# Altium integrated library FPGA Generic.IntLib: 1651 symbols (part 7 of 20)
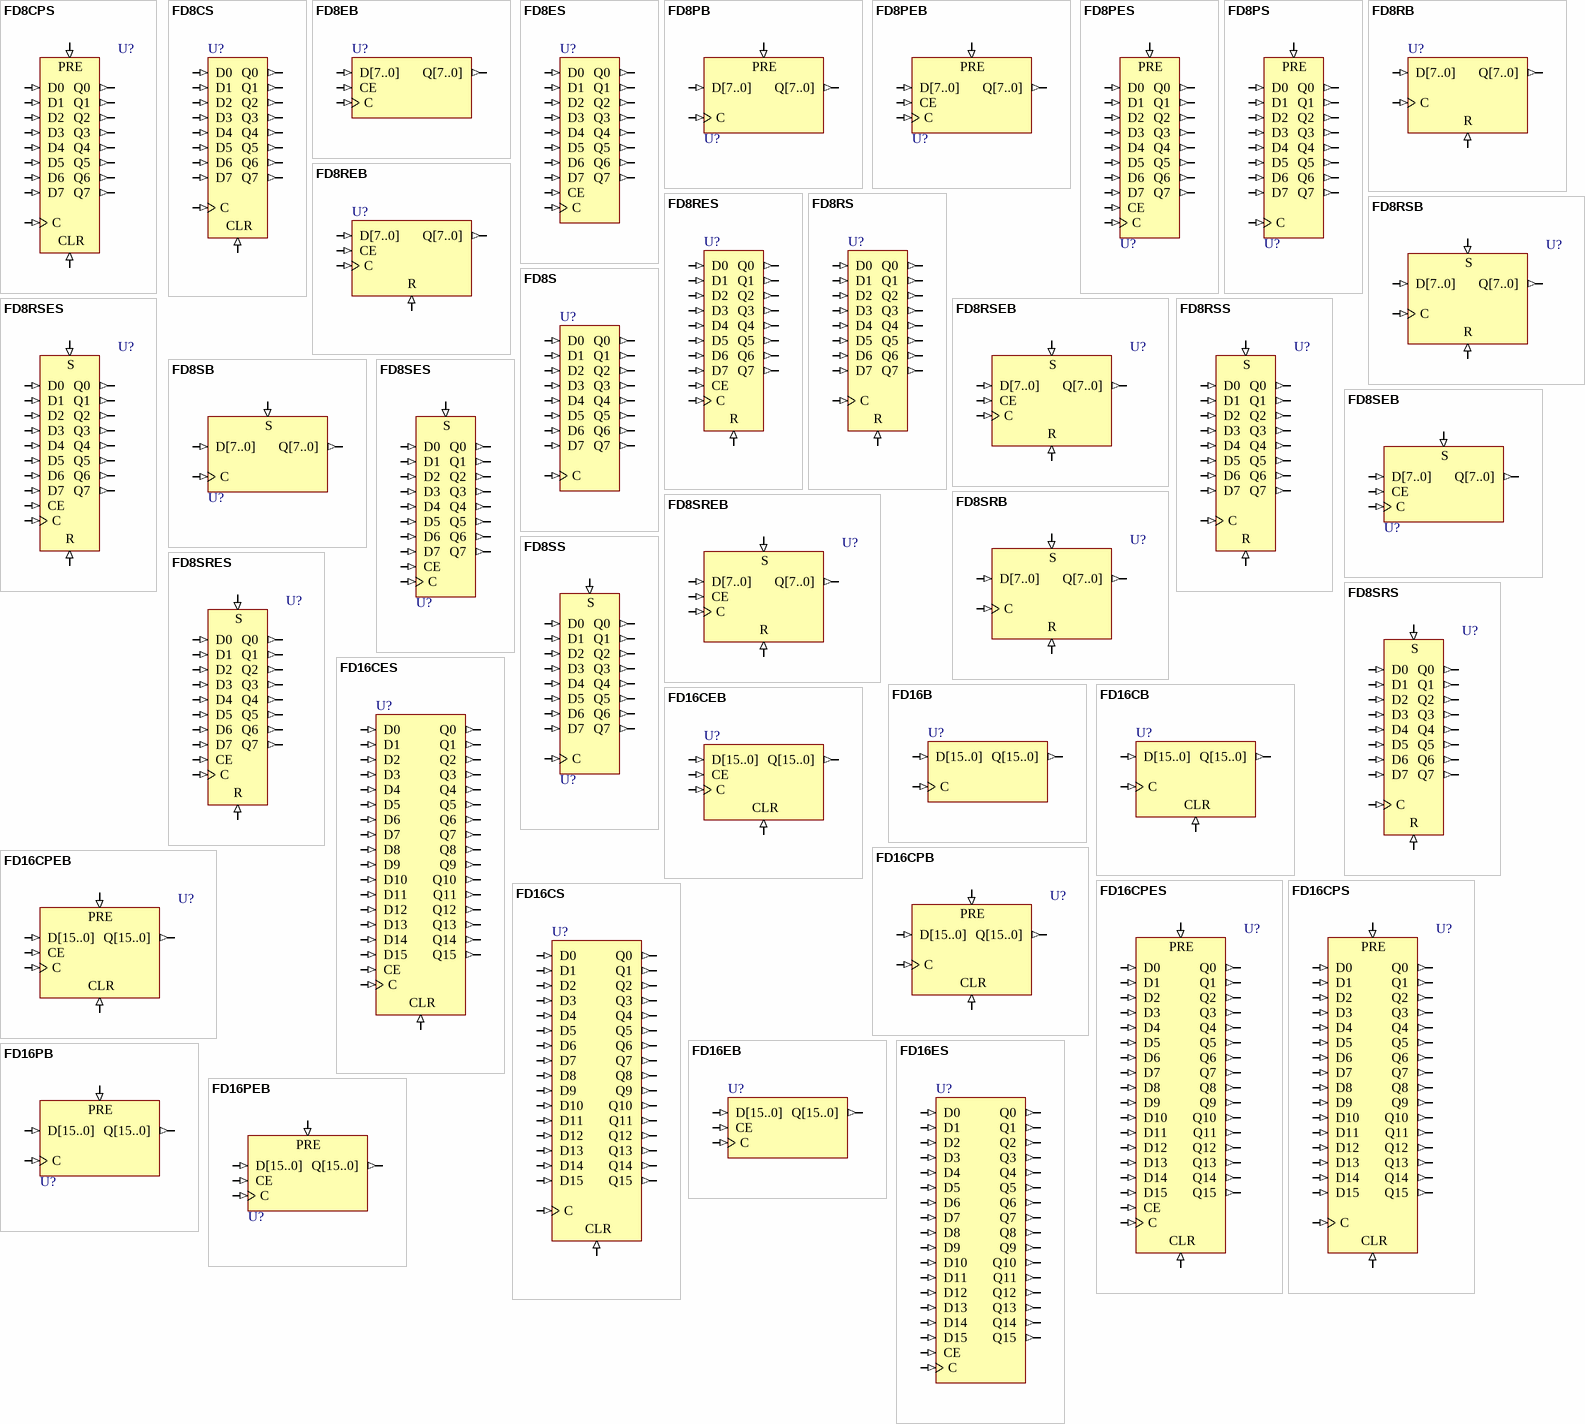
[diagram p49: symbols FD8CPS to FD16PEB]

## FD16CPEB
designator U?
16-Bit D-Type Flip-Flop with Clock Enable and Asynchronous Preset and Clear, Bus Version; SubClass: FD; ClockTrigger: Rising; Enable: High; PortSize: 16; ArchiveName: GENERIC; VHDLIB_SIM: GENERIC_LIB; Published: 29-Jan-2004; Publisher: Altium Limited; LastRevisionNo: 1.00.00; HelpURL: CR0118 FPGA Generic Library Guide.pdf#page=182; ComponentLink1URL: CR0133 FPGA Flip Flop Resource Usage.pdf#page=106; ComponentLink1Description: Core &Resource Usage; FunctionalClass: Flip-Flop; Reset: Asynchronous; Set: Asynchronous; PortStyle: Bus Version
pins: C (in), CE (in), CLR (in), D[15..0] (in), PRE (in), Q[15..0] (out)

## FD16CPES
designator U?
16-Bit D-Type Flip-Flop with Clock Enable and Asynchronous Preset and Clear, Single Pin Version; SubClass: FD; ClockTrigger: Rising; Enable: High; PortSize: 16; ArchiveName: GENERIC; VHDLIB_SIM: GENERIC_LIB; Published: 29-Jan-2004; Publisher: Altium Limited; LastRevisionNo: 1.00.00; HelpURL: CR0118 FPGA Generic Library Guide.pdf#page=182; ComponentLink1URL: CR0133 FPGA Flip Flop Resource Usage.pdf#page=107; ComponentLink1Description: Core &Resource Usage; FunctionalClass: Flip-Flop; Reset: Asynchronous; Set: Asynchronous; PortStyle: Single Pin Version
pins: C (in), CE (in), CLR (in), D0 (in), D1 (in), D2 (in), D3 (in), D4 (in), D5 (in), D6 (in), D7 (in), D8 (in), D9 (in), D10 (in), D11 (in), D12 (in), D13 (in), D14 (in), D15 (in), PRE (in), Q0 (out), Q1 (out), Q2 (out), Q3 (out), Q4 (out), Q5 (out), Q6 (out), Q7 (out), Q8 (out), Q9 (out), Q10 (out), Q11 (out), Q12 (out), Q13 (out), Q14 (out), Q15 (out)

## FD16CPS
designator U?
16-Bit D-Type Flip-Flop with Asynchronous Preset and Clear, Single Pin Version; SubClass: FD; ClockTrigger: Rising; PortSize: 16; ArchiveName: GENERIC; VHDLIB_SIM: GENERIC_LIB; Published: 29-Jan-2004; Publisher: Altium Limited; LastRevisionNo: 1.00.00; HelpURL: CR0118 FPGA Generic Library Guide.pdf#page=179; ComponentLink1URL: CR0133 FPGA Flip Flop Resource Usage.pdf#page=108; ComponentLink1Description: Core &Resource Usage; FunctionalClass: Flip-Flop; Reset: Asynchronous; Set: Asynchronous; PortStyle: Single Pin Version
pins: C (in), CLR (in), D0 (in), D1 (in), D2 (in), D3 (in), D4 (in), D5 (in), D6 (in), D7 (in), D8 (in), D9 (in), D10 (in), D11 (in), D12 (in), D13 (in), D14 (in), D15 (in), PRE (in), Q0 (out), Q1 (out), Q2 (out), Q3 (out), Q4 (out), Q5 (out), Q6 (out), Q7 (out), Q8 (out), Q9 (out), Q10 (out), Q11 (out), Q12 (out), Q13 (out), Q14 (out), Q15 (out)

## FD16CS
designator U?
16-Bit D-Type Flip-Flop with Asynchronous Clear, Single Pin Version; SubClass: FD; ClockTrigger: Rising; PortSize: 16; ArchiveName: GENERIC; VHDLIB_SIM: GENERIC_LIB; Published: 29-Jan-2004; Publisher: Altium Limited; LastRevisionNo: 1.00.00; HelpURL: CR0118 FPGA Generic Library Guide.pdf#page=172; ComponentLink1URL: CR0133 FPGA Flip Flop Resource Usage.pdf#page=109; ComponentLink1Description: Core &Resource Usage; FunctionalClass: Flip-Flop; Reset: Asynchronous; PortStyle: Single Pin Version
pins: C (in), CLR (in), D0 (in), D1 (in), D2 (in), D3 (in), D4 (in), D5 (in), D6 (in), D7 (in), D8 (in), D9 (in), D10 (in), D11 (in), D12 (in), D13 (in), D14 (in), D15 (in), Q0 (out), Q1 (out), Q2 (out), Q3 (out), Q4 (out), Q5 (out), Q6 (out), Q7 (out), Q8 (out), Q9 (out), Q10 (out), Q11 (out), Q12 (out), Q13 (out), Q14 (out), Q15 (out)

## FD16EB
designator U?
16-Bit D Flip-Flop with Clock Enable, Bus Version; SubClass: FD; ClockTrigger: Rising; Enable: High; PortSize: 16; ArchiveName: GENERIC; VHDLIB_SIM: GENERIC_LIB; Published: 29-Jan-2004; Publisher: Altium Limited; LastRevisionNo: 1.00.00; HelpURL: CR0118 FPGA Generic Library Guide.pdf#page=187; ComponentLink1URL: CR0133 FPGA Flip Flop Resource Usage.pdf#page=110; ComponentLink1Description: Core &Resource Usage; FunctionalClass: Flip-Flop; PortStyle: Bus Version
pins: C (in), CE (in), D[15..0] (in), Q[15..0] (out)

## FD16ES
designator U?
16-Bit D Flip-Flop with Clock Enable, Single Pin Version; SubClass: FD; ClockTrigger: Rising; Enable: High; PortSize: 16; ArchiveName: GENERIC; VHDLIB_SIM: GENERIC_LIB; Published: 29-Jan-2004; Publisher: Altium Limited; LastRevisionNo: 1.00.00; HelpURL: CR0118 FPGA Generic Library Guide.pdf#page=187; ComponentLink1URL: CR0133 FPGA Flip Flop Resource Usage.pdf#page=111; ComponentLink1Description: Core &Resource Usage; FunctionalClass: Flip-Flop; PortStyle: Single Pin Version
pins: C (in), CE (in), D0 (in), D1 (in), D2 (in), D3 (in), D4 (in), D5 (in), D6 (in), D7 (in), D8 (in), D9 (in), D10 (in), D11 (in), D12 (in), D13 (in), D14 (in), D15 (in), Q0 (out), Q1 (out), Q2 (out), Q3 (out), Q4 (out), Q5 (out), Q6 (out), Q7 (out), Q8 (out), Q9 (out), Q10 (out), Q11 (out), Q12 (out), Q13 (out), Q14 (out), Q15 (out)

## FD16PB
designator U?
16-Bit D-Type Flip-Flop with Asynchronous Preset, Bus Version; SubClass: FD; ClockTrigger: Rising; PortSize: 16; ArchiveName: GENERIC; VHDLIB_SIM: GENERIC_LIB; Published: 29-Jan-2004; Publisher: Altium Limited; LastRevisionNo: 1.00.00; HelpURL: CR0118 FPGA Generic Library Guide.pdf#page=191; ComponentLink1URL: CR0133 FPGA Flip Flop Resource Usage.pdf#page=112; ComponentLink1Description: Core &Resource Usage; FunctionalClass: Flip-Flop; Set: Asynchronous; PortStyle: Bus Version
pins: C (in), D[15..0] (in), PRE (in), Q[15..0] (out)

## FD16PEB
designator U?
16-Bit D-Type Flip-Flop with Clock Enable and Asynchronous Preset, Bus Version; SubClass: FD; ClockTrigger: Rising; Enable: High; PortSize: 16; ArchiveName: GENERIC; VHDLIB_SIM: GENERIC_LIB; Published: 29-Jan-2004; Publisher: Altium Limited; LastRevisionNo: 1.00.00; HelpURL: CR0118 FPGA Generic Library Guide.pdf#page=193; ComponentLink1URL: CR0133 FPGA Flip Flop Resource Usage.pdf#page=113; ComponentLink1Description: Core &Resource Usage; FunctionalClass: Flip-Flop; Set: Asynchronous; PortStyle: Bus Version
pins: C (in), CE (in), D[15..0] (in), PRE (in), Q[15..0] (out)

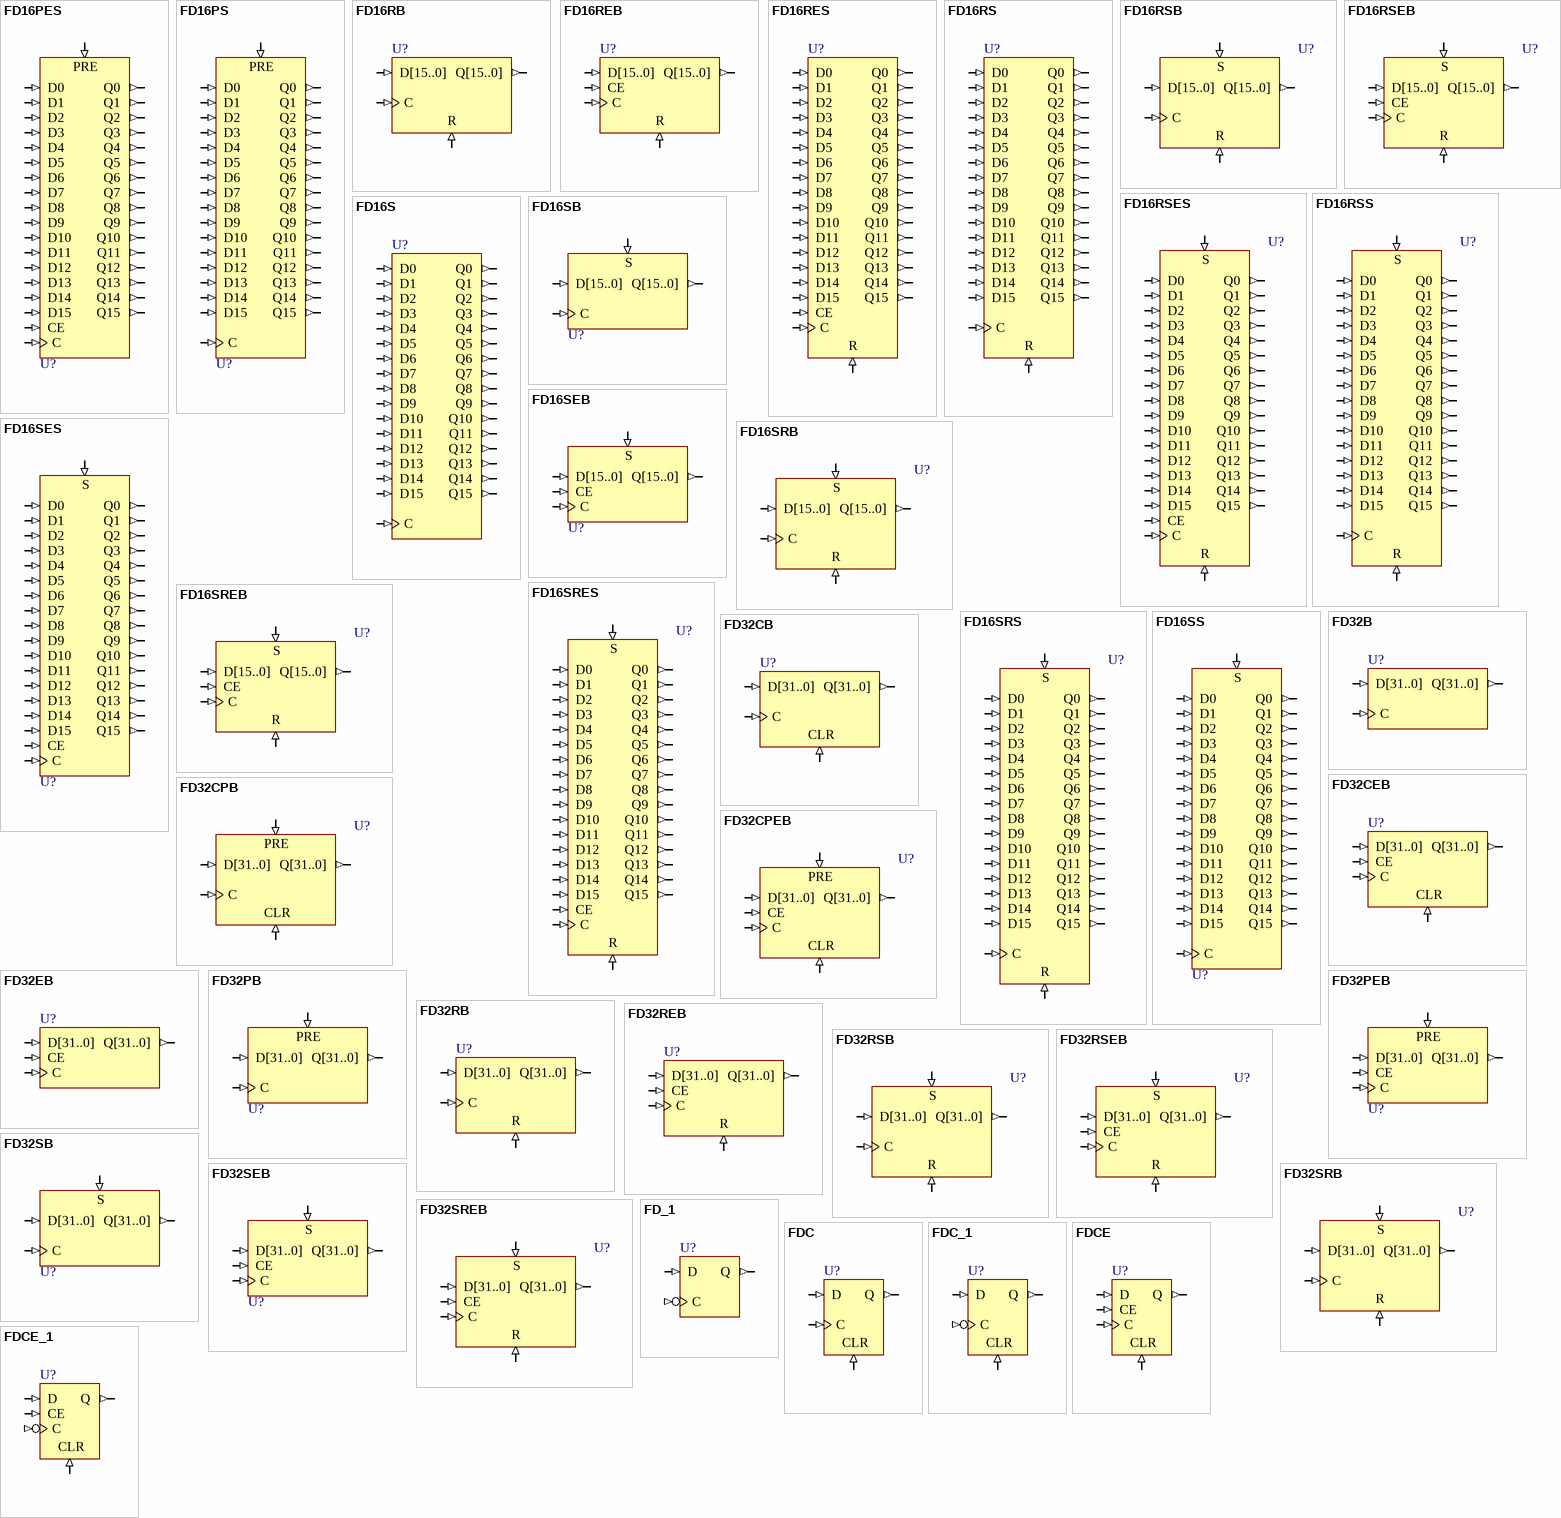
[diagram p13: symbols FD16PES to FDCE_1]

## FD16PES
designator U?
16-Bit D-Type Flip-Flop with Clock Enable and Asynchronous Preset, Single Pin Version; SubClass: FD; ClockTrigger: Rising; Enable: High; PortSize: 16; ArchiveName: GENERIC; VHDLIB_SIM: GENERIC_LIB; Published: 29-Jan-2004; Publisher: Altium Limited; LastRevisionNo: 1.00.00; HelpURL: CR0118 FPGA Generic Library Guide.pdf#page=193; ComponentLink1URL: CR0133 FPGA Flip Flop Resource Usage.pdf#page=114; ComponentLink1Description: Core &Resource Usage; FunctionalClass: Flip-Flop; Set: Asynchronous; PortStyle: Single Pin Version
pins: C (in), CE (in), D0 (in), D1 (in), D2 (in), D3 (in), D4 (in), D5 (in), D6 (in), D7 (in), D8 (in), D9 (in), D10 (in), D11 (in), D12 (in), D13 (in), D14 (in), D15 (in), PRE (in), Q0 (out), Q1 (out), Q2 (out), Q3 (out), Q4 (out), Q5 (out), Q6 (out), Q7 (out), Q8 (out), Q9 (out), Q10 (out), Q11 (out), Q12 (out), Q13 (out), Q14 (out), Q15 (out)

## FD16PS
designator U?
16-Bit D-Type Flip-Flop with Asynchronous Preset, Single Pin Version; SubClass: FD; ClockTrigger: Rising; PortSize: 16; ArchiveName: GENERIC; VHDLIB_SIM: GENERIC_LIB; Published: 29-Jan-2004; Publisher: Altium Limited; LastRevisionNo: 1.00.00; HelpURL: CR0118 FPGA Generic Library Guide.pdf#page=191; ComponentLink1URL: CR0133 FPGA Flip Flop Resource Usage.pdf#page=115; ComponentLink1Description: Core &Resource Usage; FunctionalClass: Flip-Flop; Set: Asynchronous; PortStyle: Single Pin Version
pins: C (in), D0 (in), D1 (in), D2 (in), D3 (in), D4 (in), D5 (in), D6 (in), D7 (in), D8 (in), D9 (in), D10 (in), D11 (in), D12 (in), D13 (in), D14 (in), D15 (in), PRE (in), Q0 (out), Q1 (out), Q2 (out), Q3 (out), Q4 (out), Q5 (out), Q6 (out), Q7 (out), Q8 (out), Q9 (out), Q10 (out), Q11 (out), Q12 (out), Q13 (out), Q14 (out), Q15 (out)

## FD16RB
designator U?
16-Bit D-Type Flip-Flop with Synchronous Reset, Bus Version; SubClass: FD; ClockTrigger: Rising; PortSize: 16; ArchiveName: GENERIC; VHDLIB_SIM: GENERIC_LIB; Published: 29-Jan-2004; Publisher: Altium Limited; LastRevisionNo: 1.00.00; HelpURL: CR0118 FPGA Generic Library Guide.pdf#page=198; ComponentLink1URL: CR0133 FPGA Flip Flop Resource Usage.pdf#page=116; ComponentLink1Description: Core &Resource Usage; FunctionalClass: Flip-Flop; Reset: Synchronous; PortStyle: Bus Version
pins: C (in), D[15..0] (in), Q[15..0] (out), R (in)

## FD16REB
designator U?
16-Bit D-Type Flip-Flop with Clock Enable and Synchronous Reset, Bus Version; SubClass: FD; ClockTrigger: Rising; Enable: High; PortSize: 16; ArchiveName: GENERIC; VHDLIB_SIM: GENERIC_LIB; Published: 29-Jan-2004; Publisher: Altium Limited; LastRevisionNo: 1.00.00; HelpURL: CR0118 FPGA Generic Library Guide.pdf#page=200; ComponentLink1URL: CR0133 FPGA Flip Flop Resource Usage.pdf#page=117; ComponentLink1Description: Core &Resource Usage; FunctionalClass: Flip-Flop; Reset: Synchronous; PortStyle: Bus Version
pins: C (in), CE (in), D[15..0] (in), Q[15..0] (out), R (in)

## FD16RES
designator U?
16-Bit D-Type Flip-Flop with Clock Enable and Synchronous Reset, Single Pin Version; SubClass: FD; ClockTrigger: Rising; Enable: High; PortSize: 16; ArchiveName: GENERIC; VHDLIB_SIM: GENERIC_LIB; Published: 29-Jan-2004; Publisher: Altium Limited; LastRevisionNo: 1.00.00; HelpURL: CR0118 FPGA Generic Library Guide.pdf#page=200; ComponentLink1URL: CR0133 FPGA Flip Flop Resource Usage.pdf#page=118; ComponentLink1Description: Core &Resource Usage; FunctionalClass: Flip-Flop; Reset: Synchronous; PortStyle: Single Pin Version
pins: C (in), CE (in), D0 (in), D1 (in), D2 (in), D3 (in), D4 (in), D5 (in), D6 (in), D7 (in), D8 (in), D9 (in), D10 (in), D11 (in), D12 (in), D13 (in), D14 (in), D15 (in), Q0 (out), Q1 (out), Q2 (out), Q3 (out), Q4 (out), Q5 (out), Q6 (out), Q7 (out), Q8 (out), Q9 (out), Q10 (out), Q11 (out), Q12 (out), Q13 (out), Q14 (out), Q15 (out), R (in)

## FD16RS
designator U?
16-Bit D-Type Flip-Flop with Synchronous Reset, Single Pin Version; SubClass: FD; ClockTrigger: Rising; PortSize: 16; ArchiveName: GENERIC; VHDLIB_SIM: GENERIC_LIB; Published: 29-Jan-2004; Publisher: Altium Limited; LastRevisionNo: 1.00.00; HelpURL: CR0118 FPGA Generic Library Guide.pdf#page=198; ComponentLink1URL: CR0133 FPGA Flip Flop Resource Usage.pdf#page=119; ComponentLink1Description: Core &Resource Usage; FunctionalClass: Flip-Flop; Reset: Synchronous; PortStyle: Single Pin Version
pins: C (in), D0 (in), D1 (in), D2 (in), D3 (in), D4 (in), D5 (in), D6 (in), D7 (in), D8 (in), D9 (in), D10 (in), D11 (in), D12 (in), D13 (in), D14 (in), D15 (in), Q0 (out), Q1 (out), Q2 (out), Q3 (out), Q4 (out), Q5 (out), Q6 (out), Q7 (out), Q8 (out), Q9 (out), Q10 (out), Q11 (out), Q12 (out), Q13 (out), Q14 (out), Q15 (out), R (in)

## FD16RSB
designator U?
16-Bit D-Type Flip-Flop with Synchronous Reset and Set, Bus Version; SubClass: FD; ClockTrigger: Rising; PortSize: 16; ArchiveName: GENERIC; VHDLIB_SIM: GENERIC_LIB; Published: 29-Jan-2004; Publisher: Altium Limited; LastRevisionNo: 1.00.00; HelpURL: CR0118 FPGA Generic Library Guide.pdf#page=205; ComponentLink1URL: CR0133 FPGA Flip Flop Resource Usage.pdf#page=120; ComponentLink1Description: Core &Resource Usage; FunctionalClass: Flip-Flop; Reset: Synchronous; Set: Synchronous; PortStyle: Bus Version
pins: C (in), D[15..0] (in), Q[15..0] (out), R (in), S (in)

## FD16RSEB
designator U?
16-Bit D-Type Flip-Flop with Synchronous Reset and Set and Clock Enable, Bus Version; SubClass: FD; ClockTrigger: Rising; Enable: High; PortSize: 16; ArchiveName: GENERIC; VHDLIB_SIM: GENERIC_LIB; Published: 29-Jan-2004; Publisher: Altium Limited; LastRevisionNo: 1.00.00; HelpURL: CR0118 FPGA Generic Library Guide.pdf#page=208; ComponentLink1URL: CR0133 FPGA Flip Flop Resource Usage.pdf#page=121; ComponentLink1Description: Core &Resource Usage; FunctionalClass: Flip-Flop; Reset: Synchronous; Set: Synchronous; PortStyle: Bus Version
pins: C (in), CE (in), D[15..0] (in), Q[15..0] (out), R (in), S (in)

## FD16RSES
designator U?
16-Bit D-Type Flip-Flop with Synchronous Reset and Set and Clock Enable, Single Pin Version; SubClass: FD; ClockTrigger: Rising; Enable: High; PortSize: 16; ArchiveName: GENERIC; VHDLIB_SIM: GENERIC_LIB; Published: 29-Jan-2004; Publisher: Altium Limited; LastRevisionNo: 1.00.00; HelpURL: CR0118 FPGA Generic Library Guide.pdf#page=208; ComponentLink1URL: CR0133 FPGA Flip Flop Resource Usage.pdf#page=122; ComponentLink1Description: Core &Resource Usage; FunctionalClass: Flip-Flop; Reset: Synchronous; Set: Synchronous; PortStyle: Single Pin Version
pins: C (in), CE (in), D0 (in), D1 (in), D2 (in), D3 (in), D4 (in), D5 (in), D6 (in), D7 (in), D8 (in), D9 (in), D10 (in), D11 (in), D12 (in), D13 (in), D14 (in), D15 (in), Q0 (out), Q1 (out), Q2 (out), Q3 (out), Q4 (out), Q5 (out), Q6 (out), Q7 (out), Q8 (out), Q9 (out), Q10 (out), Q11 (out), Q12 (out), Q13 (out), Q14 (out), Q15 (out), R (in), S (in)

## FD16RSS
designator U?
16-Bit D-Type Flip-Flop with Synchronous Reset and Set, Single Pin Version; SubClass: FD; ClockTrigger: Rising; PortSize: 16; ArchiveName: GENERIC; VHDLIB_SIM: GENERIC_LIB; Published: 29-Jan-2004; Publisher: Altium Limited; LastRevisionNo: 1.00.00; HelpURL: CR0118 FPGA Generic Library Guide.pdf#page=205; ComponentLink1URL: CR0133 FPGA Flip Flop Resource Usage.pdf#page=123; ComponentLink1Description: Core &Resource Usage; FunctionalClass: Flip-Flop; Reset: Synchronous; Set: Synchronous; PortStyle: Single Pin Version
pins: C (in), D0 (in), D1 (in), D2 (in), D3 (in), D4 (in), D5 (in), D6 (in), D7 (in), D8 (in), D9 (in), D10 (in), D11 (in), D12 (in), D13 (in), D14 (in), D15 (in), Q0 (out), Q1 (out), Q2 (out), Q3 (out), Q4 (out), Q5 (out), Q6 (out), Q7 (out), Q8 (out), Q9 (out), Q10 (out), Q11 (out), Q12 (out), Q13 (out), Q14 (out), Q15 (out), R (in), S (in)

## FD16S
designator U?
16-Bit D-Type Flip-Flop, Single Pin Version; SubClass: FD; ClockTrigger: Rising; PortSize: 16; ArchiveName: GENERIC; VHDLIB_SIM: GENERIC_LIB; Published: 29-Jan-2004; Publisher: Altium Limited; LastRevisionNo: 1.00.00; HelpURL: CR0118 FPGA Generic Library Guide.pdf#page=170; ComponentLink1URL: CR0133 FPGA Flip Flop Resource Usage.pdf#page=124; ComponentLink1Description: Core &Resource Usage; FunctionalClass: Flip-Flop; PortStyle: Single Pin Version
pins: C (in), D0 (in), D1 (in), D2 (in), D3 (in), D4 (in), D5 (in), D6 (in), D7 (in), D8 (in), D9 (in), D10 (in), D11 (in), D12 (in), D13 (in), D14 (in), D15 (in), Q0 (out), Q1 (out), Q2 (out), Q3 (out), Q4 (out), Q5 (out), Q6 (out), Q7 (out), Q8 (out), Q9 (out), Q10 (out), Q11 (out), Q12 (out), Q13 (out), Q14 (out), Q15 (out)

## FD16SB
designator U?
16-Bit D-Type Flip-Flop with Synchronous Set, Bus Version; SubClass: FD; ClockTrigger: Rising; PortSize: 16; ArchiveName: GENERIC; VHDLIB_SIM: GENERIC_LIB; Published: 29-Jan-2004; Publisher: Altium Limited; LastRevisionNo: 1.00.00; HelpURL: CR0118 FPGA Generic Library Guide.pdf#page=213; ComponentLink1URL: CR0133 FPGA Flip Flop Resource Usage.pdf#page=125; ComponentLink1Description: Core &Resource Usage; FunctionalClass: Flip-Flop; Set: Synchronous; PortStyle: Bus Version
pins: C (in), D[15..0] (in), Q[15..0] (out), S (in)

## FD16SEB
designator U?
16-Bit D-Type Flip-Flop with Clock Enable and Synchronous Set, Bus Version; SubClass: FD; ClockTrigger: Rising; Enable: High; PortSize: 16; ArchiveName: GENERIC; VHDLIB_SIM: GENERIC_LIB; Published: 29-Jan-2004; Publisher: Altium Limited; LastRevisionNo: 1.00.00; HelpURL: CR0118 FPGA Generic Library Guide.pdf#page=215; ComponentLink1URL: CR0133 FPGA Flip Flop Resource Usage.pdf#page=126; ComponentLink1Description: Core &Resource Usage; FunctionalClass: Flip-Flop; Set: Synchronous; PortStyle: Bus Version
pins: C (in), CE (in), D[15..0] (in), Q[15..0] (out), S (in)

## FD16SES
designator U?
16-Bit D-Type Flip-Flop with Clock Enable and Synchronous Set, Single Pin Version; SubClass: FD; ClockTrigger: Rising; Enable: High; PortSize: 16; ArchiveName: GENERIC; VHDLIB_SIM: GENERIC_LIB; Published: 29-Jan-2004; Publisher: Altium Limited; LastRevisionNo: 1.00.00; HelpURL: CR0118 FPGA Generic Library Guide.pdf#page=215; ComponentLink1URL: CR0133 FPGA Flip Flop Resource Usage.pdf#page=127; ComponentLink1Description: Core &Resource Usage; FunctionalClass: Flip-Flop; Set: Synchronous; PortStyle: Single Pin Version
pins: C (in), CE (in), D0 (in), D1 (in), D2 (in), D3 (in), D4 (in), D5 (in), D6 (in), D7 (in), D8 (in), D9 (in), D10 (in), D11 (in), D12 (in), D13 (in), D14 (in), D15 (in), Q0 (out), Q1 (out), Q2 (out), Q3 (out), Q4 (out), Q5 (out), Q6 (out), Q7 (out), Q8 (out), Q9 (out), Q10 (out), Q11 (out), Q12 (out), Q13 (out), Q14 (out), Q15 (out), S (in)

## FD16SRB
designator U?
16-Bit D-Type Flip-Flop with Synchronous Set and Reset, Bus Version; SubClass: FD; ClockTrigger: Rising; PortSize: 16; ArchiveName: GENERIC; VHDLIB_SIM: GENERIC_LIB; Published: 29-Jan-2004; Publisher: Altium Limited; LastRevisionNo: 1.00.00; HelpURL: CR0118 FPGA Generic Library Guide.pdf#page=220; ComponentLink1URL: CR0133 FPGA Flip Flop Resource Usage.pdf#page=128; ComponentLink1Description: Core &Resource Usage; FunctionalClass: Flip-Flop; Reset: Synchronous; PortStyle: Bus Version
pins: C (in), D[15..0] (in), Q[15..0] (out), R (in), S (in)

## FD16SREB
designator U?
16-Bit D-Type Flip-Flop with Synchronous Set and Reset and Clock Enable, Bus Version; SubClass: FD; ClockTrigger: Rising; Enable: High; PortSize: 16; ArchiveName: GENERIC; VHDLIB_SIM: GENERIC_LIB; Published: 29-Jan-2004; Publisher: Altium Limited; LastRevisionNo: 1.00.00; HelpURL: CR0118 FPGA Generic Library Guide.pdf#page=223; ComponentLink1URL: CR0133 FPGA Flip Flop Resource Usage.pdf#page=129; ComponentLink1Description: Core &Resource Usage; FunctionalClass: Flip-Flop; Reset: Synchronous; PortStyle: Bus Version
pins: C (in), CE (in), D[15..0] (in), Q[15..0] (out), R (in), S (in)

## FD16SRES
designator U?
16-Bit D-Type Flip-Flop with Synchronous Set and Reset and Clock Enable, Single Pin Version; SubClass: FD; ClockTrigger: Rising; Enable: High; PortSize: 16; ArchiveName: GENERIC; VHDLIB_SIM: GENERIC_LIB; Published: 29-Jan-2004; Publisher: Altium Limited; LastRevisionNo: 1.00.00; HelpURL: CR0118 FPGA Generic Library Guide.pdf#page=223; ComponentLink1URL: CR0133 FPGA Flip Flop Resource Usage.pdf#page=130; ComponentLink1Description: Core &Resource Usage; FunctionalClass: Flip-Flop; Reset: Synchronous; PortStyle: Single Pin Version
pins: C (in), CE (in), D0 (in), D1 (in), D2 (in), D3 (in), D4 (in), D5 (in), D6 (in), D7 (in), D8 (in), D9 (in), D10 (in), D11 (in), D12 (in), D13 (in), D14 (in), D15 (in), Q0 (out), Q1 (out), Q2 (out), Q3 (out), Q4 (out), Q5 (out), Q6 (out), Q7 (out), Q8 (out), Q9 (out), Q10 (out), Q11 (out), Q12 (out), Q13 (out), Q14 (out), Q15 (out), R (in), S (in)

## FD16SRS
designator U?
16-Bit D-Type Flip-Flop with Synchronous Set and Reset, Single Pin Version; SubClass: FD; ClockTrigger: Rising; PortSize: 16; ArchiveName: GENERIC; VHDLIB_SIM: GENERIC_LIB; Published: 29-Jan-2004; Publisher: Altium Limited; LastRevisionNo: 1.00.00; HelpURL: CR0118 FPGA Generic Library Guide.pdf#page=220; ComponentLink1URL: CR0133 FPGA Flip Flop Resource Usage.pdf#page=131; ComponentLink1Description: Core &Resource Usage; FunctionalClass: Flip-Flop; Reset: Synchronous; PortStyle: Single Pin Version
pins: C (in), D0 (in), D1 (in), D2 (in), D3 (in), D4 (in), D5 (in), D6 (in), D7 (in), D8 (in), D9 (in), D10 (in), D11 (in), D12 (in), D13 (in), D14 (in), D15 (in), Q0 (out), Q1 (out), Q2 (out), Q3 (out), Q4 (out), Q5 (out), Q6 (out), Q7 (out), Q8 (out), Q9 (out), Q10 (out), Q11 (out), Q12 (out), Q13 (out), Q14 (out), Q15 (out), R (in), S (in)

## FD16SS
designator U?
16-Bit D-Type Flip-Flop with Synchronous Set, Single Pin Version; SubClass: FD; ClockTrigger: Rising; PortSize: 16; ArchiveName: GENERIC; VHDLIB_SIM: GENERIC_LIB; Published: 29-Jan-2004; Publisher: Altium Limited; LastRevisionNo: 1.00.00; HelpURL: CR0118 FPGA Generic Library Guide.pdf#page=213; ComponentLink1URL: CR0133 FPGA Flip Flop Resource Usage.pdf#page=132; ComponentLink1Description: Core &Resource Usage; FunctionalClass: Flip-Flop; Set: Synchronous; PortStyle: Single Pin Version
pins: C (in), D0 (in), D1 (in), D2 (in), D3 (in), D4 (in), D5 (in), D6 (in), D7 (in), D8 (in), D9 (in), D10 (in), D11 (in), D12 (in), D13 (in), D14 (in), D15 (in), Q0 (out), Q1 (out), Q2 (out), Q3 (out), Q4 (out), Q5 (out), Q6 (out), Q7 (out), Q8 (out), Q9 (out), Q10 (out), Q11 (out), Q12 (out), Q13 (out), Q14 (out), Q15 (out), S (in)

## FD32B
designator U?
32-Bit D-Type Flip-Flop, Bus Version; SubClass: FD; ClockTrigger: Rising; PortSize: 32; ArchiveName: GENERIC; VHDLIB_SIM: GENERIC_LIB; Published: 31-May-2004; Publisher: Altium Limited; LastRevisionNo: 1.00.00; HelpURL: CR0118 FPGA Generic Library Guide.pdf#page=170; ComponentLink1URL: CR0133 FPGA Flip Flop Resource Usage.pdf#page=133; ComponentLink1Description: Core &Resource Usage; FunctionalClass: Flip-Flop; PortStyle: Bus Version
pins: C (in), D[31..0] (in), Q[31..0] (out)

## FD32CB
designator U?
32-Bit D-Type Flip-Flop with Asynchronous Clear, Bus Version; SubClass: FD; ClockTrigger: Rising; PortSize: 32; ArchiveName: GENERIC; VHDLIB_SIM: GENERIC_LIB; Published: 31-May-2004; Publisher: Altium Limited; LastRevisionNo: 1.00.00; HelpURL: CR0118 FPGA Generic Library Guide.pdf#page=172; ComponentLink1URL: CR0133 FPGA Flip Flop Resource Usage.pdf#page=134; ComponentLink1Description: Core &Resource Usage; FunctionalClass: Flip-Flop; Reset: Asynchronous; PortStyle: Bus Version
pins: C (in), CLR (in), D[31..0] (in), Q[31..0] (out)

## FD32CEB
designator U?
32-Bit D-Type Flip-Flop with Clock Enable and Asynchronous Clear, Bus Version; SubClass: FD; ClockTrigger: Rising; Enable: High; PortSize: 32; ArchiveName: GENERIC; VHDLIB_SIM: GENERIC_LIB; Published: 31-May-2004; Publisher: Altium Limited; LastRevisionNo: 1.00.00; HelpURL: CR0118 FPGA Generic Library Guide.pdf#page=174; ComponentLink1URL: CR0133 FPGA Flip Flop Resource Usage.pdf#page=135; ComponentLink1Description: Core &Resource Usage; FunctionalClass: Flip-Flop; Reset: Asynchronous; PortStyle: Bus Version
pins: C (in), CE (in), CLR (in), D[31..0] (in), Q[31..0] (out)

## FD32CPB
designator U?
32-Bit D-Type Flip-Flop with Asynchronous Preset and Clear, Bus Version; SubClass: FD; ClockTrigger: Rising; PortSize: 32; ArchiveName: GENERIC; VHDLIB_SIM: GENERIC_LIB; Published: 31-May-2004; Publisher: Altium Limited; LastRevisionNo: 1.00.00; HelpURL: CR0118 FPGA Generic Library Guide.pdf#page=179; ComponentLink1URL: CR0133 FPGA Flip Flop Resource Usage.pdf#page=136; ComponentLink1Description: Core &Resource Usage; FunctionalClass: Flip-Flop; Reset: Asynchronous; Set: Asynchronous; PortStyle: Bus Version
pins: C (in), CLR (in), D[31..0] (in), PRE (in), Q[31..0] (out)

## FD32CPEB
designator U?
32-Bit D-Type Flip-Flop with Clock Enable and Asynchronous Preset and Clear, Bus Version; SubClass: FD; ClockTrigger: Rising; Enable: High; PortSize: 32; ArchiveName: GENERIC; VHDLIB_SIM: GENERIC_LIB; Published: 31-May-2004; Publisher: Altium Limited; LastRevisionNo: 1.00.00; HelpURL: CR0118 FPGA Generic Library Guide.pdf#page=182; ComponentLink1URL: CR0133 FPGA Flip Flop Resource Usage.pdf#page=137; ComponentLink1Description: Core &Resource Usage; FunctionalClass: Flip-Flop; Reset: Asynchronous; Set: Asynchronous; PortStyle: Bus Version
pins: C (in), CE (in), CLR (in), D[31..0] (in), PRE (in), Q[31..0] (out)

## FD32EB
designator U?
32-Bit D Flip-Flop with Clock Enable, Bus Version; SubClass: FD; ClockTrigger: Rising; Enable: High; PortSize: 32; ArchiveName: GENERIC; VHDLIB_SIM: GENERIC_LIB; Published: 31-May-2004; Publisher: Altium Limited; LastRevisionNo: 1.00.00; HelpURL: CR0118 FPGA Generic Library Guide.pdf#page=187; ComponentLink1URL: CR0133 FPGA Flip Flop Resource Usage.pdf#page=138; ComponentLink1Description: Core &Resource Usage; FunctionalClass: Flip-Flop; PortStyle: Bus Version
pins: C (in), CE (in), D[31..0] (in), Q[31..0] (out)

## FD32PB
designator U?
32-Bit D-Type Flip-Flop with Asynchronous Preset, Bus Version; SubClass: FD; ClockTrigger: Rising; PortSize: 32; ArchiveName: GENERIC; VHDLIB_SIM: GENERIC_LIB; Published: 31-May-2004; Publisher: Altium Limited; LastRevisionNo: 1.00.00; HelpURL: CR0118 FPGA Generic Library Guide.pdf#page=191; ComponentLink1URL: CR0133 FPGA Flip Flop Resource Usage.pdf#page=139; ComponentLink1Description: Core &Resource Usage; FunctionalClass: Flip-Flop; Set: Asynchronous; PortStyle: Bus Version
pins: C (in), D[31..0] (in), PRE (in), Q[31..0] (out)

## FD32PEB
designator U?
32-Bit D-Type Flip-Flop with Clock Enable and Asynchronous Preset, Bus Version; SubClass: FD; ClockTrigger: Rising; Enable: High; PortSize: 32; ArchiveName: GENERIC; VHDLIB_SIM: GENERIC_LIB; Published: 31-May-2004; Publisher: Altium Limited; LastRevisionNo: 1.00.00; HelpURL: CR0118 FPGA Generic Library Guide.pdf#page=193; ComponentLink1URL: CR0133 FPGA Flip Flop Resource Usage.pdf#page=140; ComponentLink1Description: Core &Resource Usage; FunctionalClass: Flip-Flop; Set: Asynchronous; PortStyle: Bus Version
pins: C (in), CE (in), D[31..0] (in), PRE (in), Q[31..0] (out)

## FD32RB
designator U?
32-Bit D-Type Flip-Flop with Synchronous Reset, Bus Version; SubClass: FD; ClockTrigger: Rising; PortSize: 32; ArchiveName: GENERIC; VHDLIB_SIM: GENERIC_LIB; Published: 31-May-2004; Publisher: Altium Limited; LastRevisionNo: 1.00.00; HelpURL: CR0118 FPGA Generic Library Guide.pdf#page=198; ComponentLink1URL: CR0133 FPGA Flip Flop Resource Usage.pdf#page=141; ComponentLink1Description: Core &Resource Usage; FunctionalClass: Flip-Flop; Reset: Synchronous; PortStyle: Bus Version
pins: C (in), D[31..0] (in), Q[31..0] (out), R (in)

## FD32REB
designator U?
32-Bit D-Type Flip-Flop with Clock Enable and Synchronous Reset, Bus Version; SubClass: FD; ClockTrigger: Rising; Enable: High; PortSize: 32; ArchiveName: GENERIC; VHDLIB_SIM: GENERIC_LIB; Published: 31-May-2004; Publisher: Altium Limited; LastRevisionNo: 1.00.00; HelpURL: CR0118 FPGA Generic Library Guide.pdf#page=200; ComponentLink1URL: CR0133 FPGA Flip Flop Resource Usage.pdf#page=142; ComponentLink1Description: Core &Resource Usage; FunctionalClass: Flip-Flop; Reset: Synchronous; PortStyle: Bus Version
pins: C (in), CE (in), D[31..0] (in), Q[31..0] (out), R (in)

## FD32RSB
designator U?
32-Bit D-Type Flip-Flop with Synchronous Reset and Set, Bus Version; SubClass: FD; ClockTrigger: Rising; PortSize: 32; ArchiveName: GENERIC; VHDLIB_SIM: GENERIC_LIB; Published: 31-May-2004; Publisher: Altium Limited; LastRevisionNo: 1.00.00; HelpURL: CR0118 FPGA Generic Library Guide.pdf#page=205; ComponentLink1URL: CR0133 FPGA Flip Flop Resource Usage.pdf#page=143; ComponentLink1Description: Core &Resource Usage; FunctionalClass: Flip-Flop; Reset: Synchronous; Set: Synchronous; PortStyle: Bus Version
pins: C (in), D[31..0] (in), Q[31..0] (out), R (in), S (in)

## FD32RSEB
designator U?
32-Bit D-Type Flip-Flop with Synchronous Reset and Set and Clock Enable, Bus Version; SubClass: FD; ClockTrigger: Rising; Enable: High; PortSize: 32; ArchiveName: GENERIC; VHDLIB_SIM: GENERIC_LIB; Published: 31-May-2004; Publisher: Altium Limited; LastRevisionNo: 1.00.00; HelpURL: CR0118 FPGA Generic Library Guide.pdf#page=208; ComponentLink1URL: CR0133 FPGA Flip Flop Resource Usage.pdf#page=144; ComponentLink1Description: Core &Resource Usage; FunctionalClass: Flip-Flop; Reset: Synchronous; Set: Synchronous; PortStyle: Bus Version
pins: C (in), CE (in), D[31..0] (in), Q[31..0] (out), R (in), S (in)

## FD32SB
designator U?
32-Bit D-Type Flip-Flop with Synchronous Set, Bus Version; SubClass: FD; ClockTrigger: Rising; PortSize: 32; ArchiveName: GENERIC; VHDLIB_SIM: GENERIC_LIB; Published: 31-May-2004; Publisher: Altium Limited; LastRevisionNo: 1.00.00; HelpURL: CR0118 FPGA Generic Library Guide.pdf#page=213; ComponentLink1URL: CR0133 FPGA Flip Flop Resource Usage.pdf#page=145; ComponentLink1Description: Core &Resource Usage; FunctionalClass: Flip-Flop; Set: Synchronous; PortStyle: Bus Version
pins: C (in), D[31..0] (in), Q[31..0] (out), S (in)

## FD32SEB
designator U?
32-Bit D-Type Flip-Flop with Clock Enable and Synchronous Set, Bus Version; SubClass: FD; ClockTrigger: Rising; Enable: High; PortSize: 32; ArchiveName: GENERIC; VHDLIB_SIM: GENERIC_LIB; Published: 31-May-2004; Publisher: Altium Limited; LastRevisionNo: 1.00.00; HelpURL: CR0118 FPGA Generic Library Guide.pdf#page=215; ComponentLink1URL: CR0133 FPGA Flip Flop Resource Usage.pdf#page=146; ComponentLink1Description: Core &Resource Usage; FunctionalClass: Flip-Flop; Set: Synchronous; PortStyle: Bus Version
pins: C (in), CE (in), D[31..0] (in), Q[31..0] (out), S (in)

## FD32SRB
designator U?
32-Bit D-Type Flip-Flop with Synchronous Set and Reset, Bus Version; SubClass: FD; ClockTrigger: Rising; PortSize: 32; ArchiveName: GENERIC; VHDLIB_SIM: GENERIC_LIB; Published: 31-May-2004; Publisher: Altium Limited; LastRevisionNo: 1.00.00; HelpURL: CR0118 FPGA Generic Library Guide.pdf#page=220; ComponentLink1URL: CR0133 FPGA Flip Flop Resource Usage.pdf#page=147; ComponentLink1Description: Core &Resource Usage; FunctionalClass: Flip-Flop; Reset: Synchronous; Set: Synchronous; PortStyle: Bus Version
pins: C (in), D[31..0] (in), Q[31..0] (out), R (in), S (in)

## FD32SREB
designator U?
32-Bit D-Type Flip-Flop with Synchronous Set and Reset and Clock Enable, Bus Version; SubClass: FD; ClockTrigger: Rising; Enable: High; PortSize: 32; ArchiveName: GENERIC; VHDLIB_SIM: GENERIC_LIB; Published: 31-May-2004; Publisher: Altium Limited; LastRevisionNo: 1.00.00; HelpURL: CR0118 FPGA Generic Library Guide.pdf#page=223; ComponentLink1URL: CR0133 FPGA Flip Flop Resource Usage.pdf#page=148; ComponentLink1Description: Core &Resource Usage; FunctionalClass: Flip-Flop; Reset: Synchronous; Set: Synchronous; PortStyle: Bus Version
pins: C (in), CE (in), D[31..0] (in), Q[31..0] (out), R (in), S (in)

## FD_1
designator U?
D-Type Negative Edge Flip-Flop; XilinxEquivalent: FD_1; SubClass: FD; ClockTrigger: Falling; ArchiveName: GENERIC; VHDLIB_SIM: GENERIC_LIB; Published: 29-Jan-2004; Publisher: Altium Limited; LastRevisionNo: 1.00.00; HelpURL: CR0118 FPGA Generic Library Guide.pdf#page=171; ComponentLink1URL: CR0133 FPGA Flip Flop Resource Usage.pdf#page=149; ComponentLink1Description: Core &Resource Usage; FunctionalClass: Flip-Flop
pins: C (in), D (in), Q (out)

## FDC
designator U?
D-Type Flip-Flop with Asynchronous Clear; XilinxEquivalent: FDC; SubClass: FD; ClockTrigger: Rising; ArchiveName: GENERIC; VHDLIB_SIM: GENERIC_LIB; Published: 29-Jan-2004; Publisher: Altium Limited; LastRevisionNo: 1.00.00; HelpURL: CR0118 FPGA Generic Library Guide.pdf#page=172; ComponentLink1URL: CR0133 FPGA Flip Flop Resource Usage.pdf#page=150; ComponentLink1Description: Core &Resource Usage; FunctionalClass: Flip-Flop; Reset: Asynchronous
pins: C (in), CLR (in), D (in), Q (out)

## FDC_1
designator U?
D-Type Negative Edge Flip-Flop with Asynchronous Clear; XilinxEquivalent: FDC_1; SubClass: FD; ClockTrigger: Falling; ArchiveName: GENERIC; VHDLIB_SIM: GENERIC_LIB; Published: 29-Jan-2004; Publisher: Altium Limited; LastRevisionNo: 1.00.00; HelpURL: CR0118 FPGA Generic Library Guide.pdf#page=173; ComponentLink1URL: CR0133 FPGA Flip Flop Resource Usage.pdf#page=151; ComponentLink1Description: Core &Resource Usage; FunctionalClass: Flip-Flop; Reset: Asynchronous
pins: C (in), CLR (in), D (in), Q (out)

## FDCE
designator U?
D-Type Flip-Flop with Clock Enable and Asynchronous Clear; XilinxEquivalent: FDCE; SubClass: FD; ClockTrigger: Rising; Enable: High; ArchiveName: GENERIC; VHDLIB_SIM: GENERIC_LIB; Published: 29-Jan-2004; Publisher: Altium Limited; LastRevisionNo: 1.00.00; HelpURL: CR0118 FPGA Generic Library Guide.pdf#page=174; ComponentLink1URL: CR0133 FPGA Flip Flop Resource Usage.pdf#page=152; ComponentLink1Description: Core &Resource Usage; FunctionalClass: Flip-Flop; Reset: Asynchronous
pins: C (in), CE (in), CLR (in), D (in), Q (out)

## FDCE_1
designator U?
D-Type Negative Edge Flip-Flop with Clock Enable, Asynchronous Clear and Dual output; XilinxEquivalent: FDCE_1; SubClass: FD; ClockTrigger: Falling; Enable: High; ArchiveName: GENERIC; VHDLIB_SIM: GENERIC_LIB; Published: 29-Jan-2004; Publisher: Altium Limited; LastRevisionNo: 1.00.00; HelpURL: CR0118 FPGA Generic Library Guide.pdf#page=176; ComponentLink1URL: CR0133 FPGA Flip Flop Resource Usage.pdf#page=153; ComponentLink1Description: Core &Resource Usage; FunctionalClass: Flip-Flop; Reset: Asynchronous
pins: C (in), CE (in), CLR (in), D (in), Q (out)

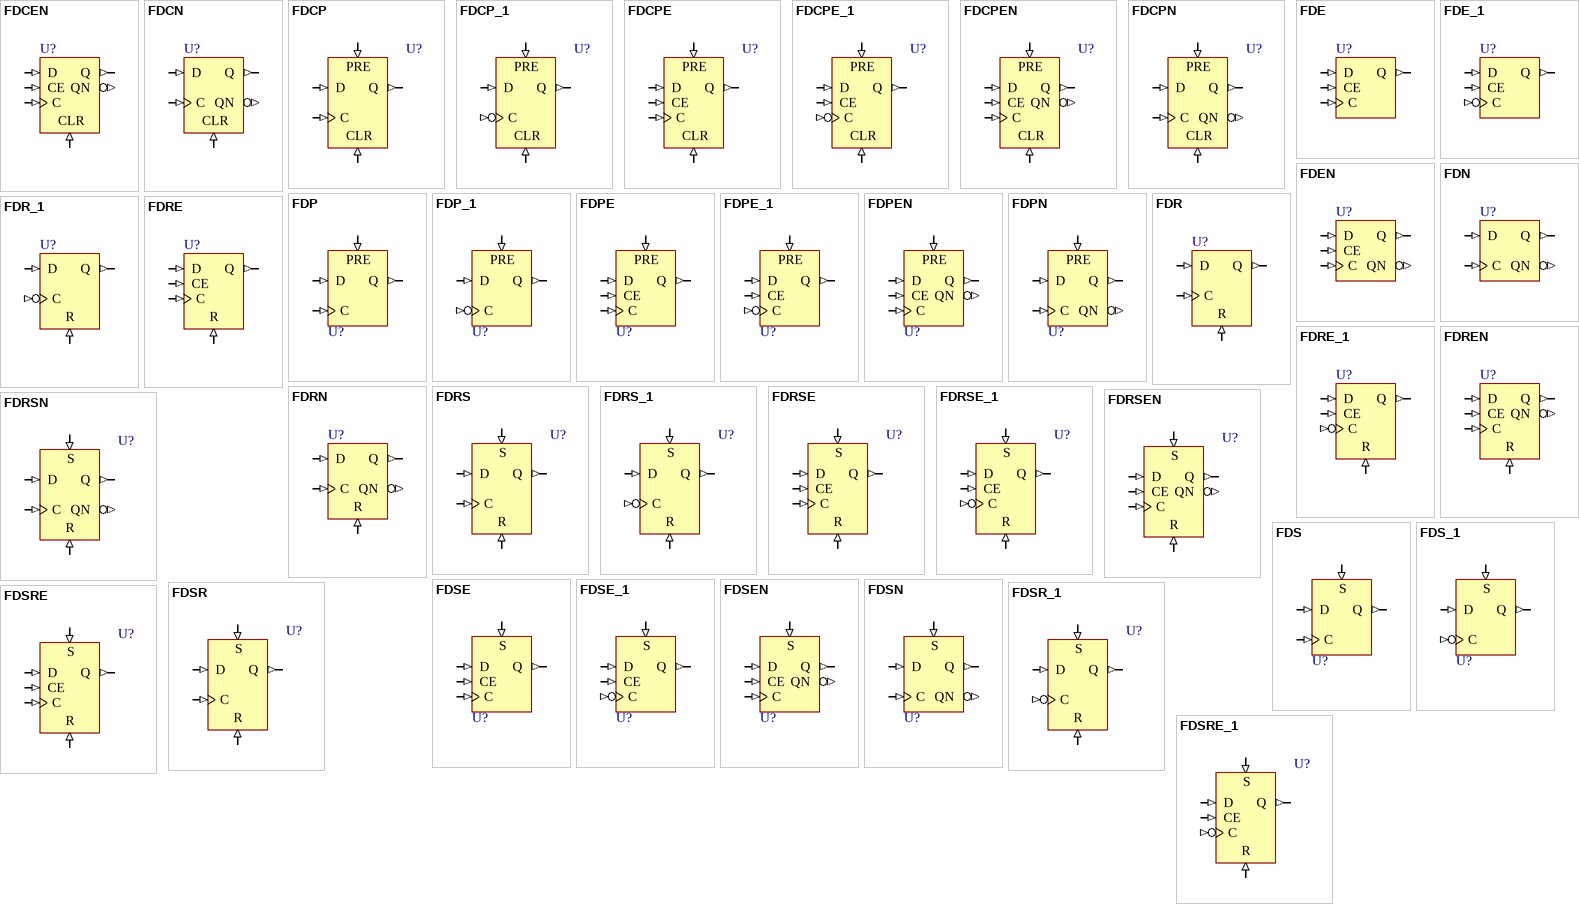
[diagram p14: symbols FDCEN to FDSRE_1]

## FDCEN
designator U?
D-Type Flip-Flop with Clock Enable, Asynchronous Clear and Inverted and Non-Inverted Outputs; SubClass: FD; ClockTrigger: Rising; Enable: High; ArchiveName: GENERIC; VHDLIB_SIM: GENERIC_LIB; Published: 29-Jan-2004; Publisher: Altium Limited; LastRevisionNo: 1.00.00; HelpURL: CR0118 FPGA Generic Library Guide.pdf#page=177; ComponentLink1URL: CR0133 FPGA Flip Flop Resource Usage.pdf#page=154; ComponentLink1Description: Core &Resource Usage; FunctionalClass: Flip-Flop; Reset: Asynchronous
pins: C (in), CE (in), CLR (in), D (in), Q (out), QN (out)

## FDCN
designator U?
D-Type Flip-Flop with Asynchronous Clear and Inverted and Non-Inverted Outputs; SubClass: FD; ClockTrigger: Rising; ArchiveName: GENERIC; VHDLIB_SIM: GENERIC_LIB; Published: 29-Jan-2004; Publisher: Altium Limited; LastRevisionNo: 1.00.00; HelpURL: CR0118 FPGA Generic Library Guide.pdf#page=178; ComponentLink1URL: CR0133 FPGA Flip Flop Resource Usage.pdf#page=155; ComponentLink1Description: Core &Resource Usage; FunctionalClass: Flip-Flop; Reset: Asynchronous
pins: C (in), CLR (in), D (in), Q (out), QN (out)

## FDCP
designator U?
D-Type Flip-Flop with Asynchronous Preset and Clear; XilinxEquivalent: FDCP; SubClass: FD; ClockTrigger: Rising; ArchiveName: GENERIC; VHDLIB_SIM: GENERIC_LIB; Published: 29-Jan-2004; Publisher: Altium Limited; LastRevisionNo: 1.00.00; HelpURL: CR0118 FPGA Generic Library Guide.pdf#page=179; ComponentLink1URL: CR0133 FPGA Flip Flop Resource Usage.pdf#page=156; ComponentLink1Description: Core &Resource Usage; FunctionalClass: Flip-Flop; Reset: Asynchronous; Set: Asynchronous
pins: C (in), CLR (in), D (in), PRE (in), Q (out)

## FDCP_1
designator U?
D-Type Negative Edge Flip-Flop with Asynchronous Preset and Clear; XilinxEquivalent: FDCP_1; SubClass: FD; ClockTrigger: Falling; ArchiveName: GENERIC; VHDLIB_SIM: GENERIC_LIB; Published: 29-Jan-2004; Publisher: Altium Limited; LastRevisionNo: 1.00.00; HelpURL: CR0118 FPGA Generic Library Guide.pdf#page=181; ComponentLink1URL: CR0133 FPGA Flip Flop Resource Usage.pdf#page=157; ComponentLink1Description: Core &Resource Usage; FunctionalClass: Flip-Flop; Reset: Asynchronous; Set: Asynchronous
pins: C (in), CLR (in), D (in), PRE (in), Q (out)

## FDCPE
designator U?
D-Type Flip-Flop with Clock Enable and Asynchronous Preset and Clear; XilinxEquivalent: FDCPE; SubClass: FD; ClockTrigger: Rising; Enable: High; ArchiveName: GENERIC; VHDLIB_SIM: GENERIC_LIB; Published: 29-Jan-2004; Publisher: Altium Limited; LastRevisionNo: 1.00.00; HelpURL: CR0118 FPGA Generic Library Guide.pdf#page=182; ComponentLink1URL: CR0133 FPGA Flip Flop Resource Usage.pdf#page=158; ComponentLink1Description: Core &Resource Usage; FunctionalClass: Flip-Flop; Reset: Asynchronous; Set: Asynchronous
pins: C (in), CE (in), CLR (in), D (in), PRE (in), Q (out)

## FDCPE_1
designator U?
D-Type Negative Edge Flip-Flop with Clock Enable and Asynchronous Preset and Clear; XilinxEquivalent: FDCPE_1; SubClass: FD; ClockTrigger: Falling; Enable: High; ArchiveName: GENERIC; VHDLIB_SIM: GENERIC_LIB; Published: 29-Jan-2004; Publisher: Altium Limited; LastRevisionNo: 1.00.00; HelpURL: CR0118 FPGA Generic Library Guide.pdf#page=184; ComponentLink1URL: CR0133 FPGA Flip Flop Resource Usage.pdf#page=159; ComponentLink1Description: Core &Resource Usage; FunctionalClass: Flip-Flop; Reset: Asynchronous; Set: Asynchronous
pins: C (in), CE (in), CLR (in), D (in), PRE (in), Q (out)

## FDCPEN
designator U?
D-Type Flip-Flop with Clock Enable, Asynchronous Preset, Clear and Inverted and Non-Inverted Outputs; SubClass: FD; ClockTrigger: Rising; Enable: High; ArchiveName: GENERIC; VHDLIB_SIM: GENERIC_LIB; Published: 29-Jan-2004; Publisher: Altium Limited; LastRevisionNo: 1.00.00; HelpURL: CR0118 FPGA Generic Library Guide.pdf#page=185; ComponentLink1URL: CR0133 FPGA Flip Flop Resource Usage.pdf#page=160; ComponentLink1Description: Core &Resource Usage; FunctionalClass: Flip-Flop; Reset: Asynchronous; Set: Asynchronous
pins: C (in), CE (in), CLR (in), D (in), PRE (in), Q (out), QN (out)

## FDCPN
designator U?
D-Type Flip-Flop with Asynchronous Preset, Clear and Inverted and Non-Inverted Outputs; SubClass: FD; ClockTrigger: Rising; ArchiveName: GENERIC; VHDLIB_SIM: GENERIC_LIB; Published: 29-Jan-2004; Publisher: Altium Limited; LastRevisionNo: 1.00.00; HelpURL: CR0118 FPGA Generic Library Guide.pdf#page=186; ComponentLink1URL: CR0133 FPGA Flip Flop Resource Usage.pdf#page=161; ComponentLink1Description: Core &Resource Usage; FunctionalClass: Flip-Flop; Reset: Asynchronous; Set: Asynchronous
pins: C (in), CLR (in), D (in), PRE (in), Q (out), QN (out)

## FDE
designator U?
D Flip-Flop with Clock Enable; SubClass: FD; ClockTrigger: Rising; Enable: High; ArchiveName: GENERIC; VHDLIB_SIM: GENERIC_LIB; Published: 29-Jan-2004; Publisher: Altium Limited; LastRevisionNo: 1.00.00; HelpURL: CR0118 FPGA Generic Library Guide.pdf#page=187; ComponentLink1URL: CR0133 FPGA Flip Flop Resource Usage.pdf#page=162; ComponentLink1Description: Core &Resource Usage; FunctionalClass: Flip-Flop
pins: C (in), CE (in), D (in), Q (out)

## FDE_1
designator U?
D Negative Edge Flip-Flop with Clock Enable; SubClass: FD; ClockTrigger: Falling; Enable: High; ArchiveName: GENERIC; VHDLIB_SIM: GENERIC_LIB; Published: 29-Jan-2004; Publisher: Altium Limited; LastRevisionNo: 1.00.00; HelpURL: CR0118 FPGA Generic Library Guide.pdf#page=188; ComponentLink1URL: CR0133 FPGA Flip Flop Resource Usage.pdf#page=163; ComponentLink1Description: Core &Resource Usage; FunctionalClass: Flip-Flop
pins: C (in), CE (in), D (in), Q (out)

## FDEN
designator U?
D Flip-Flop with Clock Enable and Inverted and Non-Inverted Outputs; SubClass: FD; ClockTrigger: Rising; Enable: High; ArchiveName: GENERIC; VHDLIB_SIM: GENERIC_LIB; Published: 29-Jan-2004; Publisher: Altium Limited; LastRevisionNo: 1.00.00; HelpURL: CR0118 FPGA Generic Library Guide.pdf#page=189; ComponentLink1URL: CR0133 FPGA Flip Flop Resource Usage.pdf#page=164; ComponentLink1Description: Core &Resource Usage; FunctionalClass: Flip-Flop
pins: C (in), CE (in), D (in), Q (out), QN (out)

## FDN
designator U?
D-Type Flip-Flop with Inverted and Non-Inverted Outputs; SubClass: FD; ClockTrigger: Rising; ArchiveName: GENERIC; VHDLIB_SIM: GENERIC_LIB; Published: 29-Jan-2004; Publisher: Altium Limited; LastRevisionNo: 1.00.00; HelpURL: CR0118 FPGA Generic Library Guide.pdf#page=190; ComponentLink1URL: CR0133 FPGA Flip Flop Resource Usage.pdf#page=165; ComponentLink1Description: Core &Resource Usage; FunctionalClass: Flip-Flop
pins: C (in), D (in), Q (out), QN (out)

## FDP
designator U?
D-Type Flip-Flop with Asynchronous Preset; XilinxEquivalent: FDP; SubClass: FD; ClockTrigger: Rising; ArchiveName: GENERIC; VHDLIB_SIM: GENERIC_LIB; Published: 29-Jan-2004; Publisher: Altium Limited; LastRevisionNo: 1.00.00; HelpURL: CR0118 FPGA Generic Library Guide.pdf#page=191; ComponentLink1URL: CR0133 FPGA Flip Flop Resource Usage.pdf#page=166; ComponentLink1Description: Core &Resource Usage; FunctionalClass: Flip-Flop; Set: Asynchronous
pins: C (in), D (in), PRE (in), Q (out)

## FDP_1
designator U?
D-Type Negative Edge Flip-Flop with Asynchronous Preset; XilinxEquivalent: FDP_1; SubClass: FD; ClockTrigger: Falling; ArchiveName: GENERIC; VHDLIB_SIM: GENERIC_LIB; Published: 29-Jan-2004; Publisher: Altium Limited; LastRevisionNo: 1.00.00; HelpURL: CR0118 FPGA Generic Library Guide.pdf#page=192; ComponentLink1URL: CR0133 FPGA Flip Flop Resource Usage.pdf#page=167; ComponentLink1Description: Core &Resource Usage; FunctionalClass: Flip-Flop; Set: Asynchronous
pins: C (in), D (in), PRE (in), Q (out)

## FDPE
designator U?
D-Type Flip-Flop with Clock Enable and Asynchronous Preset; XilinxEquivalent: FDPE; SubClass: FD; ClockTrigger: Rising; Enable: High; ArchiveName: GENERIC; VHDLIB_SIM: GENERIC_LIB; Published: 29-Jan-2004; Publisher: Altium Limited; LastRevisionNo: 1.00.00; HelpURL: CR0118 FPGA Generic Library Guide.pdf#page=193; ComponentLink1URL: CR0133 FPGA Flip Flop Resource Usage.pdf#page=168; ComponentLink1Description: Core &Resource Usage; FunctionalClass: Flip-Flop; Set: Asynchronous
pins: C (in), CE (in), D (in), PRE (in), Q (out)

## FDPE_1
designator U?
D-Type Flip-Flop with Clock Enable and Asynchronous Preset; XilinxEquivalent: FDPE_1; SubClass: FD; ClockTrigger: Rising; Enable: High; ArchiveName: GENERIC; VHDLIB_SIM: GENERIC_LIB; Published: 29-Jan-2004; Publisher: Altium Limited; LastRevisionNo: 1.00.00; HelpURL: CR0118 FPGA Generic Library Guide.pdf#page=195; ComponentLink1URL: CR0133 FPGA Flip Flop Resource Usage.pdf#page=169; ComponentLink1Description: Core &Resource Usage; FunctionalClass: Flip-Flop; Set: Asynchronous
pins: C (in), CE (in), D (in), PRE (in), Q (out)

## FDPEN
designator U?
D-Type Flip-Flop with Clock Enable and Asynchronous Preset and Inverted and Non-Inverted Outputs; SubClass: FD; ClockTrigger: Rising; Enable: High; ArchiveName: GENERIC; VHDLIB_SIM: GENERIC_LIB; Published: 29-Jan-2004; Publisher: Altium Limited; LastRevisionNo: 1.00.00; HelpURL: CR0118 FPGA Generic Library Guide.pdf#page=196; ComponentLink1URL: CR0133 FPGA Flip Flop Resource Usage.pdf#page=170; ComponentLink1Description: Core &Resource Usage; FunctionalClass: Flip-Flop; Set: Asynchronous
pins: C (in), CE (in), D (in), PRE (in), Q (out), QN (out)

## FDPN
designator U?
D-Type Flip-Flop with Asynchronous Preset and Inverted and Non-Inverted Outputs; SubClass: FD; ClockTrigger: Rising; ArchiveName: GENERIC; VHDLIB_SIM: GENERIC_LIB; Published: 29-Jan-2004; Publisher: Altium Limited; LastRevisionNo: 1.00.00; HelpURL: CR0118 FPGA Generic Library Guide.pdf#page=197; ComponentLink1URL: CR0133 FPGA Flip Flop Resource Usage.pdf#page=171; ComponentLink1Description: Core &Resource Usage; FunctionalClass: Flip-Flop; Set: Asynchronous
pins: C (in), D (in), PRE (in), Q (out), QN (out)

## FDR
designator U?
D-Type Flip-Flop with Synchronous Reset; XilinxEquivalent: FDR; SubClass: FD; ClockTrigger: Rising; ArchiveName: GENERIC; VHDLIB_SIM: GENERIC_LIB; Published: 29-Jan-2004; Publisher: Altium Limited; LastRevisionNo: 1.00.00; HelpURL: CR0118 FPGA Generic Library Guide.pdf#page=198; ComponentLink1URL: CR0133 FPGA Flip Flop Resource Usage.pdf#page=172; ComponentLink1Description: Core &Resource Usage; FunctionalClass: Flip-Flop; Reset: Synchronous
pins: C (in), D (in), Q (out), R (in)

## FDR_1
designator U?
D-Type Negative Edge Flip-Flop with Synchronous Reset; XilinxEquivalent: FDR_1; SubClass: FD; ClockTrigger: Falling; ArchiveName: GENERIC; VHDLIB_SIM: GENERIC_LIB; Published: 29-Jan-2004; Publisher: Altium Limited; LastRevisionNo: 1.00.00; HelpURL: CR0118 FPGA Generic Library Guide.pdf#page=199; ComponentLink1URL: CR0133 FPGA Flip Flop Resource Usage.pdf#page=173; ComponentLink1Description: Core &Resource Usage; FunctionalClass: Flip-Flop; Reset: Synchronous
pins: C (in), D (in), Q (out), R (in)

## FDRE
designator U?
D-Type Flip-Flop with Clock Enable and Synchronous Reset; XilinxEquivalent: FDRE; SubClass: FD; ClockTrigger: Rising; Enable: High; ArchiveName: GENERIC; VHDLIB_SIM: GENERIC_LIB; Published: 29-Jan-2004; Publisher: Altium Limited; LastRevisionNo: 1.00.00; HelpURL: CR0118 FPGA Generic Library Guide.pdf#page=200; ComponentLink1URL: CR0133 FPGA Flip Flop Resource Usage.pdf#page=174; ComponentLink1Description: Core &Resource Usage; FunctionalClass: Flip-Flop; Reset: Synchronous
pins: C (in), CE (in), D (in), Q (out), R (in)

## FDRE_1
designator U?
D-Type Negative Edge Flip-Flop with Clock Enable and Synchronous Reset; XilinxEquivalent: FDRE_1; SubClass: FD; ClockTrigger: Falling; Enable: High; ArchiveName: GENERIC; VHDLIB_SIM: GENERIC_LIB; Published: 29-Jan-2004; Publisher: Altium Limited; LastRevisionNo: 1.00.00; HelpURL: CR0118 FPGA Generic Library Guide.pdf#page=202; ComponentLink1URL: CR0133 FPGA Flip Flop Resource Usage.pdf#page=175; ComponentLink1Description: Core &Resource Usage; FunctionalClass: Flip-Flop; Reset: Synchronous
pins: C (in), CE (in), D (in), Q (out), R (in)

## FDREN
designator U?
D-Type Flip-Flop with Clock Enable Synchronous Reset and Inverted and Non-Inverted Outputs; SubClass: FD; ClockTrigger: Rising; Enable: High; ArchiveName: GENERIC; VHDLIB_SIM: GENERIC_LIB; Published: 29-Jan-2004; Publisher: Altium Limited; LastRevisionNo: 1.00.00; HelpURL: CR0118 FPGA Generic Library Guide.pdf#page=203; ComponentLink1URL: CR0133 FPGA Flip Flop Resource Usage.pdf#page=176; ComponentLink1Description: Core &Resource Usage; FunctionalClass: Flip-Flop; Reset: Synchronous
pins: C (in), CE (in), D (in), Q (out), QN (out), R (in)

## FDRN
designator U?
D-Type Flip-Flop with Synchronous Reset and Inverted and Non-Inverted Outputs; SubClass: FD; ClockTrigger: Rising; ArchiveName: GENERIC; VHDLIB_SIM: GENERIC_LIB; Published: 29-Jan-2004; Publisher: Altium Limited; LastRevisionNo: 1.00.00; HelpURL: CR0118 FPGA Generic Library Guide.pdf#page=204; ComponentLink1URL: CR0133 FPGA Flip Flop Resource Usage.pdf#page=177; ComponentLink1Description: Core &Resource Usage; FunctionalClass: Flip-Flop; Reset: Synchronous
pins: C (in), D (in), Q (out), QN (out), R (in)

## FDRS
designator U?
D-Type Flip-Flop with Synchronous Reset and Set, Single Pin Version; XilinxEquivalent: FDRS; SubClass: FD; ClockTrigger: Rising; ArchiveName: GENERIC; VHDLIB_SIM: GENERIC_LIB; Published: 29-Jan-2004; Publisher: Altium Limited; LastRevisionNo: 1.00.00; HelpURL: CR0118 FPGA Generic Library Guide.pdf#page=205; ComponentLink1URL: CR0133 FPGA Flip Flop Resource Usage.pdf#page=178; ComponentLink1Description: Core &Resource Usage; FunctionalClass: Flip-Flop; Reset: Synchronous; Set: Synchronous; PortStyle: Single Pin Version
pins: C (in), D (in), Q (out), R (in), S (in)

## FDRS_1
designator U?
D-Type Negative Edge Flip-Flop with Synchronous Reset and Set; XilinxEquivalent: FDRS_1; SubClass: FD; ClockTrigger: Falling; ArchiveName: GENERIC; VHDLIB_SIM: GENERIC_LIB; Published: 29-Jan-2004; Publisher: Altium Limited; LastRevisionNo: 1.00.00; HelpURL: CR0118 FPGA Generic Library Guide.pdf#page=207; ComponentLink1URL: CR0133 FPGA Flip Flop Resource Usage.pdf#page=179; ComponentLink1Description: Core &Resource Usage; FunctionalClass: Flip-Flop; Reset: Synchronous; Set: Synchronous
pins: C (in), D (in), Q (out), R (in), S (in)

## FDRSE
designator U?
D-Type Flip-Flop with Synchronous Reset and Set and Clock Enable; XilinxEquivalent: FDRSE; SubClass: FD; ClockTrigger: Rising; Enable: High; ArchiveName: GENERIC; VHDLIB_SIM: GENERIC_LIB; Published: 29-Jan-2004; Publisher: Altium Limited; LastRevisionNo: 1.00.00; HelpURL: CR0118 FPGA Generic Library Guide.pdf#page=208; ComponentLink1URL: CR0133 FPGA Flip Flop Resource Usage.pdf#page=180; ComponentLink1Description: Core &Resource Usage; FunctionalClass: Flip-Flop; Reset: Synchronous; Set: Synchronous
pins: C (in), CE (in), D (in), Q (out), R (in), S (in)

## FDRSE_1
designator U?
D-Type Negative Edge Flip-Flop with Synchronous Reset and Set and Clock Enable; XilinxEquivalent: FDRSE_1; SubClass: FD; ClockTrigger: Falling; Enable: High; ArchiveName: GENERIC; VHDLIB_SIM: GENERIC_LIB; Published: 29-Jan-2004; Publisher: Altium Limited; LastRevisionNo: 1.00.00; HelpURL: CR0118 FPGA Generic Library Guide.pdf#page=210; ComponentLink1URL: CR0133 FPGA Flip Flop Resource Usage.pdf#page=181; ComponentLink1Description: Core &Resource Usage; FunctionalClass: Flip-Flop; Reset: Synchronous; Set: Synchronous
pins: C (in), CE (in), D (in), Q (out), R (in), S (in)

## FDRSEN
designator U?
D-Type Flip-Flop with Synchronous Reset and Set, Clock Enable and Inverted and Non-Inverted Outputs; SubClass: FD; ClockTrigger: Rising; Enable: High; ArchiveName: GENERIC; VHDLIB_SIM: GENERIC_LIB; Published: 29-Jan-2004; Publisher: Altium Limited; LastRevisionNo: 1.00.00; HelpURL: CR0118 FPGA Generic Library Guide.pdf#page=211; ComponentLink1URL: CR0133 FPGA Flip Flop Resource Usage.pdf#page=182; ComponentLink1Description: Core &Resource Usage; FunctionalClass: Flip-Flop; Reset: Synchronous; Set: Synchronous
pins: C (in), CE (in), D (in), Q (out), QN (out), R (in), S (in)

## FDRSN
designator U?
D-Type Flip-Flop with Synchronous Reset, Set and Inverted and Non-Inverted Outputs; SubClass: FD; ClockTrigger: Rising; ArchiveName: GENERIC; VHDLIB_SIM: GENERIC_LIB; Published: 29-Jan-2004; Publisher: Altium Limited; LastRevisionNo: 1.00.00; HelpURL: CR0118 FPGA Generic Library Guide.pdf#page=212; ComponentLink1URL: CR0133 FPGA Flip Flop Resource Usage.pdf#page=183; ComponentLink1Description: Core &Resource Usage; FunctionalClass: Flip-Flop; Reset: Synchronous; Set: Synchronous
pins: C (in), D (in), Q (out), QN (out), R (in), S (in)

## FDS
designator U?
D-Type Flip-Flop with Synchronous Set, Single Pin Version; XilinxEquivalent: FDS; SubClass: FD; ClockTrigger: Rising; ArchiveName: GENERIC; VHDLIB_SIM: GENERIC_LIB; Published: 29-Jan-2004; Publisher: Altium Limited; LastRevisionNo: 1.00.00; HelpURL: CR0118 FPGA Generic Library Guide.pdf#page=213; ComponentLink1URL: CR0133 FPGA Flip Flop Resource Usage.pdf#page=184; ComponentLink1Description: Core &Resource Usage; FunctionalClass: Flip-Flop; Set: Synchronous; PortStyle: Single Pin Version
pins: C (in), D (in), Q (out), S (in)